# Altium integrated library FG24X7R1A106KRT00.IntLib: 1 symbol
Pins are listed as number, name and electrical type; pins without a type are passive.

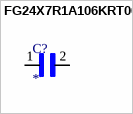
[diagram p0: symbol FG24X7R1A106KRT00]

## FG24X7R1A106KRT00
designator C?
10 ÂµF Â±10% 10V Ceramic Capacitor X7R Radial; MF: TDK; MP: FG24X7R1A106KRT00; Purchase-URL: https://pricing.snapeda.com/search/part/FG24X7R1A106KRT00/?ref=eda; Value: *; SnapEDA_Link: https://www.snapeda.com/parts/FG24X7R1A106KRT00/TDK/view-part/?ref=snap; Package: Radial TDK; Availability: In Stock; Price: None; Check_prices: https://www.snapeda.com/parts/FG24X7R1A106KRT00/TDK/view-part/?ref=eda
footprint CAPRB500W50L450T300H550
pins: 1, 2